# Altium footprint library SamacSys.PcbLib: 19 footprints (part 2 of 2)
Each footprint in its own frame and in the unit in brackets; x right, y up, seen from the top. Pads: shape width x height; smd on the part's side, far side on the other; paste and mask are expansions set on the pad; w line width, h text height; cw(c..) or ccw(c..) is an arc to the next point about the centre after c.
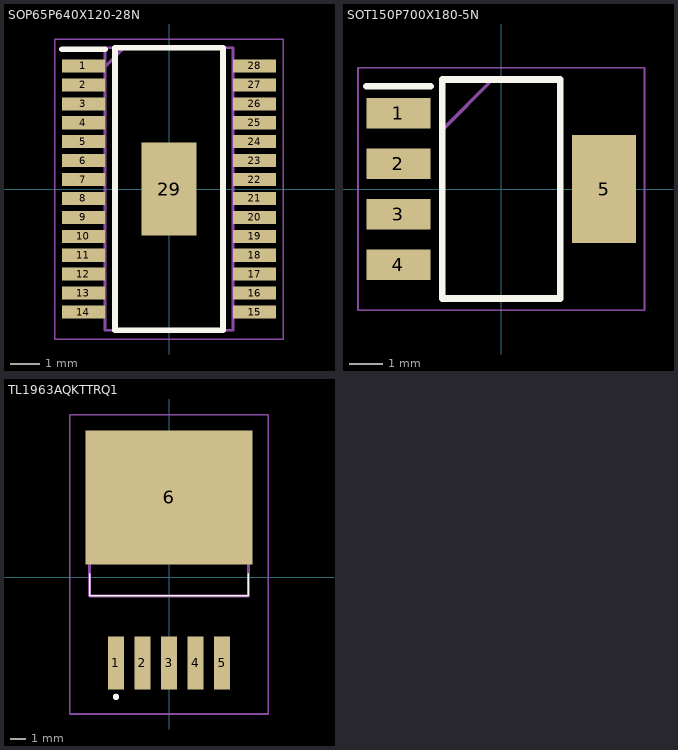
[diagram p1: the footprints below, top view; thin cyan lines are the x and y axes]

## SOP65P640X120-28N [mm]
pads (29):
  rect 1.475x0.45 smd: 1(-2.938,4.225) 2(-2.938,3.575) 3(-2.938,2.925) 4(-2.938,2.275) 5(-2.938,1.625) 6(-2.938,0.975) 7(-2.938,0.325) 8(-2.938,-0.325) 9(-2.938,-0.975) 10(-2.938,-1.625) 11(-2.938,-2.275) 12(-2.938,-2.925) 13(-2.938,-3.575) 14(-2.938,-4.225) 15(2.938,-4.225) 16(2.938,-3.575) 17(2.938,-2.925) 18(2.938,-2.275) 19(2.938,-1.625) 20(2.938,-0.975) 21(2.938,-0.325) 22(2.938,0.325) 23(2.938,0.975) 24(2.938,1.625) 25(2.938,2.275) 26(2.938,2.925) 27(2.938,3.575) 28(2.938,4.225)
  rect 1.9x3.2 smd: 29(0,0)
Top Overlay:
  lines w0.2: -3.675,4.8 -2.2,4.8 ; -1.85,-4.85 -1.85,4.85 1.85,4.85 1.85,-4.85 -1.85,-4.85
Mechanical 13:
  lines w0.1: -2.2,4.2 -1.55,4.85 ; -2.2,-4.85 -2.2,4.85 2.2,4.85 2.2,-4.85 -2.2,-4.85
Mechanical 15:
  lines w0.05: -3.925,-5.15 -3.925,5.15 3.925,5.15 3.925,-5.15 -3.925,-5.15
3D body "TPS4H160AQPWPRQ1.stp": height 1.13, standoff 0, extent -3.2,-4.85 3.2,4.85

## SOT150P700X180-5N [mm]
pads (5):
  rect 1.9x0.9 smd: 1(-3.05,2.25) 2(-3.05,0.75) 3(-3.05,-0.75) 4(-3.05,-2.25)
  rect 1.9x3.2 smd: 5(3.05,0)
Top Overlay:
  lines w0.2: -4,3.05 -2.1,3.05 ; -1.75,-3.25 1.75,-3.25 1.75,3.25 -1.75,3.25 -1.75,-3.25
Mechanical 13:
  lines w0.1: -1.755,1.75 -0.255,3.25 ; -1.755,-3.25 1.755,-3.25 1.755,3.25 -1.755,3.25 -1.755,-3.25
Mechanical 15:
  lines w0.05: -4.25,-3.6 4.25,-3.6 4.25,3.6 -4.25,3.6 -4.25,-3.6
3D body "LP3855EMP-5.0_NOPB.stp": height 1.68, standoff 0, extent -3.482,-3.25 3.482,3.25

## TL1963AQKTTRQ1 [mm]
pads (6):
  rect 1x3.4 smd: 1(-3.4,-5.47) 2(-1.7,-5.47) 3(0,-5.47) 4(1.7,-5.47) 5(3.4,-5.47)
  rect 10.7x8.6 smd: 6(0,5.13)
Top Overlay:
  lines w0.1: -5.09,0.25 -5.09,-1.175 5.09,-1.175 5.09,0.25
  lines w0.2: -3.5,-7.65 cw(c-3.4,-7.65) -3.3,-7.65 cw(c-3.4,-7.65) -3.5,-7.65
Mechanical 13:
  lines w0.2: -5.09,-1.175 5.09,-1.175 5.09,7.75 -5.09,7.75 -5.09,-1.175
Mechanical 15:
  lines w0.1: -6.35,-8.75 6.35,-8.75 6.35,10.43 -6.35,10.43 -6.35,-8.75
3D body "TL2575-05IKTTR.stp": height 4.59, standoff 0, extent -5.08,-6.791 5.08,8.48